# Altium footprint library lastyearbutton.PcbLib: 1 footprints
Each footprint in its own frame and in the unit in brackets; x right, y up, seen from the top. Pads: shape width x height; smd on the part's side, far side on the other; paste and mask are expansions set on the pad; w line width, h text height; cw(c..) or ccw(c..) is an arc to the next point about the centre after c.
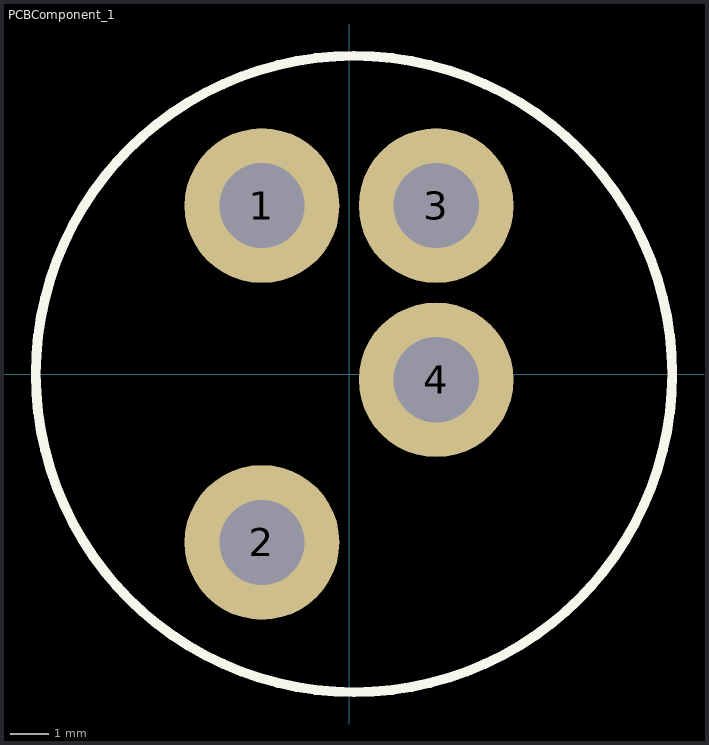
[diagram p0: the footprint, top view; thin cyan lines are the x and y axes]

## PCBComponent_1 [mm]
pads (4):
  round 4 hole 2.2: 1(-2.25,4.35) 2(-2.25,-4.35) 3(2.25,4.35) 4(2.25,-0.15)
Top Overlay:
  circle w0.254: c0.127,0 r8.22